# Altium footprint library PCB - POWER INDUCTORS - TDK MLF1608.PCBLIB: 1 footprints
Each footprint in its own frame and in the unit in brackets; x right, y up, seen from the top. Pads: shape width x height; smd on the part's side, far side on the other; paste and mask are expansions set on the pad; w line width, h text height; cw(c..) or ccw(c..) is an arc to the next point about the centre after c.
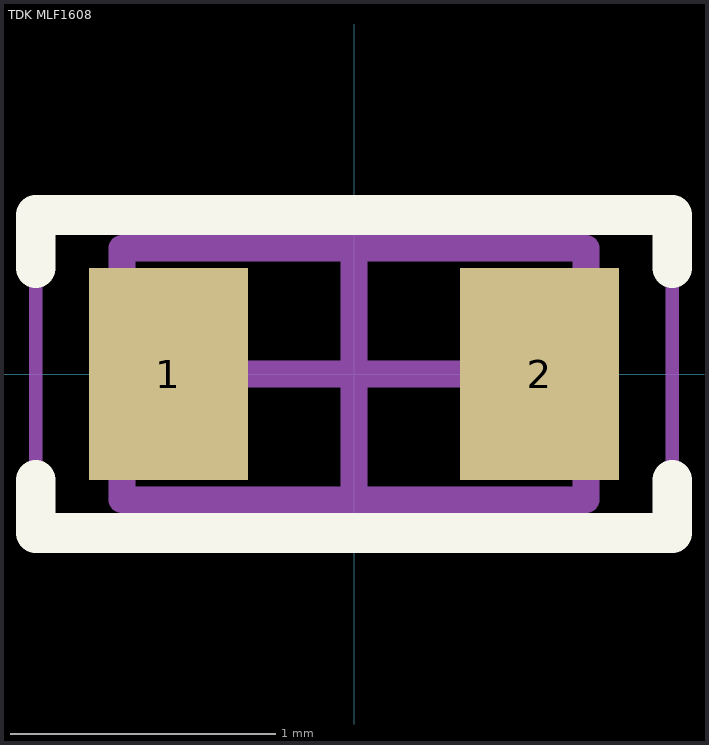
[diagram p0: the footprint, top view; thin cyan lines are the x and y axes]

## TDK MLF1608 [mm] "Chip Inductor, 2-Leads, Body 1.60x0.80mm"
height 0.95
pads (2):
  rect 0.6x0.8 smd: 1(-0.7,0) 2(0.7,0)
Top Overlay:
  lines w0.15: -1.2,-0.4 -1.2,-0.6 1.2,-0.6 1.2,-0.4 ; -1.2,0.4 -1.2,0.6 1.2,0.6 1.2,0.4
Mechanical 13:
  lines w0.1: -0.875,-0.475 0.875,-0.475 0.875,0.475 -0.875,0.475 -0.875,-0.475
Mechanical 15:
  lines w0.05: -1.2,-0.6 1.2,-0.6 1.2,0.6 -1.2,0.6 -1.2,-0.6
  lines w0.1: -0.475,0 0.475,0 ; 0,-0.475 0,0.475
3D body "TDK MLF1608.step": height 0.95, standoff 0, extent -0.875,-0.475 0.875,0.475